# Altium footprint library FD6288Q.PcbLib: 1 footprints
Each footprint in its own frame and in the unit in brackets; x right, y up, seen from the top. Pads: shape width x height; smd on the part's side, far side on the other; paste and mask are expansions set on the pad; w line width, h text height; cw(c..) or ccw(c..) is an arc to the next point about the centre after c.
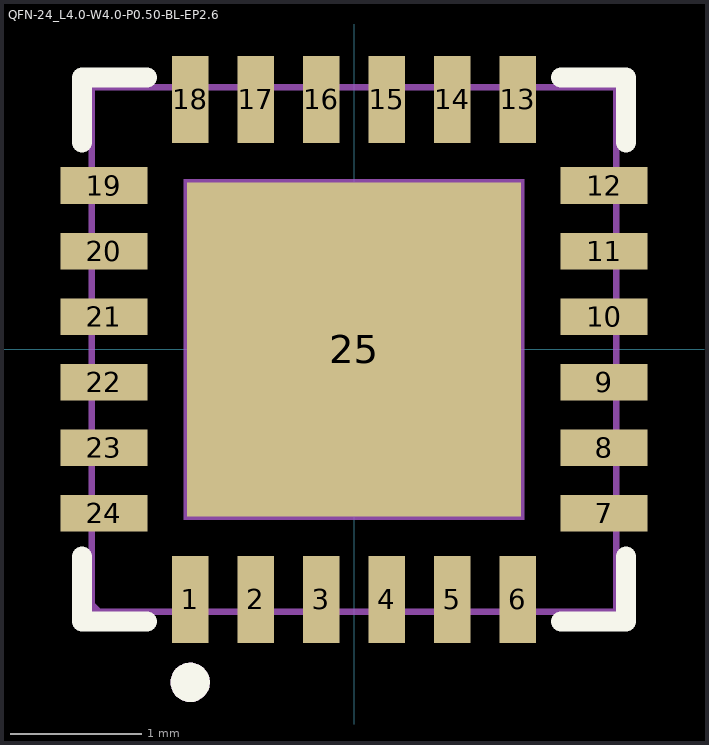
[diagram p0: the footprint, top view; thin cyan lines are the x and y axes]

## QFN-24_L4.0-W4.0-P0.50-BL-EP2.6 [mm]
pads (25):
  rect 0.28x0.665 smd mask+0.05: 1(-1.25,-1.908) 2(-0.75,-1.908) 3(-0.25,-1.908) 4(0.25,-1.908) 5(0.75,-1.908) 6(1.25,-1.908) 13(1.25,1.908) 14(0.75,1.908) 15(0.25,1.908) 16(-0.25,1.908) 17(-0.75,1.908) 18(-1.25,1.908)
  rect 0.665x0.28 smd mask+0.05: 7(1.908,-1.25) 8(1.908,-0.75) 9(1.908,-0.25) 10(1.908,0.25) 11(1.908,0.75) 12(1.908,1.25) 19(-1.908,1.25) 20(-1.908,0.75) 21(-1.908,0.25) 22(-1.908,-0.25) 23(-1.908,-0.75) 24(-1.908,-1.25)
  rect 2.55x2.55 smd mask+0.05: 25(0,0)
Top Overlay:
  circle w0.15: c-1.25,-2.54 r0.075
  lines w0.152: -2.076,-1.58 -2.076,-2.076 -1.58,-2.076 ; -2.076,1.58 -2.076,2.076 -1.58,2.076 ; 1.58,-2.076 2.076,-2.076 2.076,-1.58 ; 1.58,2.076 2.076,2.076 2.076,1.58
Top Paste:
  region: -1.02,1.02 1.02,1.02 1.02,-1.02 -1.02,-1.02
  region: -1.39,-2.24 -1.39,-1.575 -1.11,-1.575 -1.11,-2.24
  region: -0.89,-2.24 -0.89,-1.575 -0.61,-1.575 -0.61,-2.24
  region: -0.39,-2.24 -0.39,-1.575 -0.11,-1.575 -0.11,-2.24
  region: 0.11,-2.24 0.11,-1.575 0.39,-1.575 0.39,-2.24
  region: 0.61,-2.24 0.61,-1.575 0.89,-1.575 0.89,-2.24
  region: 1.11,-2.24 1.11,-1.575 1.39,-1.575 1.39,-2.24
  region: 2.24,-1.39 2.24,-1.11 1.575,-1.11 1.575,-1.39
  region: 2.24,-0.89 2.24,-0.61 1.575,-0.61 1.575,-0.89
  region: 2.24,-0.39 2.24,-0.11 1.575,-0.11 1.575,-0.39
  region: 2.24,0.11 2.24,0.39 1.575,0.39 1.575,0.11
  region: 2.24,0.61 2.24,0.89 1.575,0.89 1.575,0.61
  region: 2.24,1.11 2.24,1.39 1.575,1.39 1.575,1.11
  region: 1.11,2.24 1.11,1.575 1.39,1.575 1.39,2.24
  region: 0.61,2.24 0.61,1.575 0.89,1.575 0.89,2.24
  region: 0.11,2.24 0.11,1.575 0.39,1.575 0.39,2.24
  region: -0.39,2.24 -0.39,1.575 -0.11,1.575 -0.11,2.24
  region: -0.89,2.24 -0.89,1.575 -0.61,1.575 -0.61,2.24
  region: -1.39,2.24 -1.39,1.575 -1.11,1.575 -1.11,2.24
  region: -1.575,1.11 -1.575,1.39 -2.24,1.39 -2.24,1.11
  region: -1.575,0.61 -1.575,0.89 -2.24,0.89 -2.24,0.61
  region: -1.575,0.11 -1.575,0.39 -2.24,0.39 -2.24,0.11
  region: -1.575,-0.39 -1.575,-0.11 -2.24,-0.11 -2.24,-0.39
  region: -1.575,-0.89 -1.575,-0.61 -2.24,-0.61 -2.24,-0.89
  region: -1.575,-1.39 -1.575,-1.11 -2.24,-1.11 -2.24,-1.39
Mechanical 6:
  circle w0.15: c-1.25,-2.54 r0.075
Mechanical 15:
  region: -1.3,1.3 1.3,1.3 1.3,-1.3 -1.3,-1.3
  region: -1.6,-1.37 -1.6,-1.13 -2,-1.13 -2,-1.37
  region: -1.6,-0.87 -1.6,-0.63 -2,-0.63 -2,-0.87
  region: -1.6,-0.37 -1.6,-0.13 -2,-0.13 -2,-0.37
  region: -1.6,0.13 -1.6,0.37 -2,0.37 -2,0.13
  region: -1.6,0.63 -1.6,0.87 -2,0.87 -2,0.63
  region: -1.6,1.13 -1.6,1.37 -2,1.37 -2,1.13
  region: -1.37,2 -1.37,1.6 -1.13,1.6 -1.13,2
  region: -0.87,2 -0.87,1.6 -0.63,1.6 -0.63,2
  region: -0.37,2 -0.37,1.6 -0.13,1.6 -0.13,2
  region: 0.13,2 0.13,1.6 0.37,1.6 0.37,2
  region: 0.63,2 0.63,1.6 0.87,1.6 0.87,2
  region: 1.13,2 1.13,1.6 1.37,1.6 1.37,2
  region: 1.6,1.13 1.6,1.37 2,1.37 2,1.13
  region: 1.6,0.63 1.6,0.87 2,0.87 2,0.63
  region: 1.6,0.13 1.6,0.37 2,0.37 2,0.13
  region: 1.6,-0.37 1.6,-0.13 2,-0.13 2,-0.37
  region: 1.6,-0.87 1.6,-0.63 2,-0.63 2,-0.87
  region: 1.6,-1.37 1.6,-1.13 2,-1.13 2,-1.37
  region: 1.13,-2 1.13,-1.6 1.37,-1.6 1.37,-2
  region: 0.63,-2 0.63,-1.6 0.87,-1.6 0.87,-2
  region: 0.13,-2 0.13,-1.6 0.37,-1.6 0.37,-2
  region: -0.37,-2 -0.37,-1.6 -0.13,-1.6 -0.13,-2
  region: -0.87,-2 -0.87,-1.6 -0.63,-1.6 -0.63,-2
  region: -1.37,-2 -1.37,-1.6 -1.13,-1.6 -1.13,-2
  region: -1.94,-2 -1.94,-1.975 -1.975,-1.94 -2.025,-1.94 -2.06,-1.975 -2.06,-2 -2.06,-2.025 -2.025,-2.06 -1.975,-2.06 -1.94,-2.025 -1.94,-2
  lines w0.051: -2,-2 2,-2 2,2 -2,2 -2,-2